# Altium integrated library Button - Slide.IntLib: 1 symbol
Pins are listed as number, name and electrical type; pins without a type are passive.

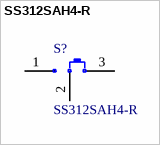
[diagram p0: symbol SS312SAH4-R]

## SS312SAH4-R
designator S?
SWITCH SLIDE SPDT 0.4VA 28V; Manufacturer: NKK Switches; Switch Function: On-On; Actuator Type: Standard; Switch Travel: 2.00mm; Mechanical Life: 10,000 Cycles; Part Number: SS312SAH4-R; PartId: 16471; Supplier 1: Digi-Key; Supplier Part Number 1: 360-2924-2-ND; ComponentLink1Description: Datasheet; ComponentLink1URL: http://2t70un3m1d9z1kztamkdrd38.wpengine.netdna-cdn.com/wp-content/uploads/2016/02/SS3surfaceMount.pdf; ComponentLink2Description: Digi-Key Listing; ComponentLink2URL: http://www.digikey.com/product-detail/en/nkk-switches/SS312SAH4-R/360-2924-2-ND/2810472; Price: 1.953; TYPE: Slide Switches; Series: SS3; Circuit: SPDT; Operating Force: -; Operating Temperature: -25C ~ 85C
footprint NKK SS312SAH4
pins: 1, 2 COM, 3